# Altium footprint library SW_THT_DPDT.PcbLib: 2 footprints
Each footprint in its own frame and in the unit in brackets; x right, y up, seen from the top. Pads: shape width x height; smd on the part's side, far side on the other; paste and mask are expansions set on the pad; w line width, h text height; cw(c..) or ccw(c..) is an arc to the next point about the centre after c.
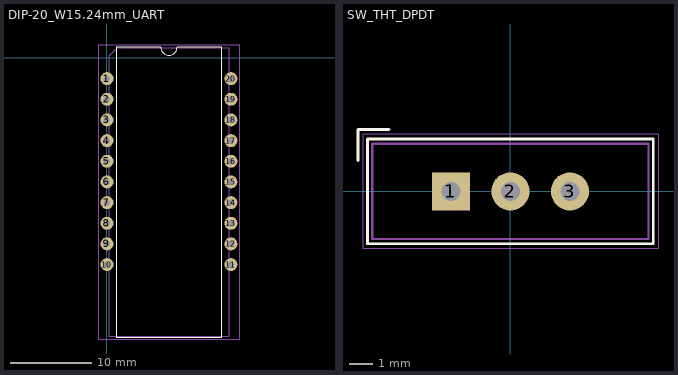
[diagram p0: the footprints below, top view; thin cyan lines are the x and y axes]

## DIP-20_W15.24mm_UART [mm]
pads (20):
  rrect100% 1.6x1.6 hole 0.8: 1(0,-2.54) 2(0,-5.08) 3(0,-7.62) 4(0,-10.16) 5(0,-12.7) 6(0,-15.24) 7(0,-17.78) 8(0,-20.32) 9(0,-22.86) 10(0,-25.4) 11(15.24,-25.4) 12(15.24,-22.86) 13(15.24,-20.32) 14(15.24,-17.78) 15(15.24,-15.24) 16(15.24,-12.7) 17(15.24,-10.16) 18(15.24,-7.62) 19(15.24,-5.08) 20(15.24,-2.54)
F.SilkS:
  lines w0.12: 1.16,-34.35 1.16,1.33 6.62,1.33 ccw(c7.62,1.33) 8.62,1.33 14.08,1.33 14.08,-34.35 1.16,-34.35
F.Fab:
  lines w0.1: 0.255,-34.29 14.985,-34.29 14.985,1.27 1.255,1.27 0.255,0.27 0.255,-34.29
  text "'.Designator'" at 6.18,-16.909 h1
F.CrtYd:
  lines w0.05: -1.05,-34.55 16.3,-34.55 16.3,1.55 -1.05,1.55 -1.05,-34.55

## SW_THT_DPDT [mm]
pads (3):
  rect 1.6x1.6 hole 0.8: 1(-2.5,0)
  round 1.6 hole 0.8: 2(0,0) 3(2.5,0)
F.SilkS:
  lines w0.12: -6.4,1.3 -6.4,2.6 -5.1,2.6 ; -6,-2.2 -6,2.2 6,2.2 6,-2.2 -6,-2.2
F.Fab:
  lines w0.1: -5.8,-2 5.8,-2 5.8,2 -5.8,2 -5.8,-2
  text "'.Designator'" at -1.44,2.521 h1
F.CrtYd:
  lines w0.05: -6.2,-2.4 -6.2,2.4 6.2,2.4 6.2,-2.4 -6.2,-2.4